# EAGLE library part LM4702 (library lmopamp2)
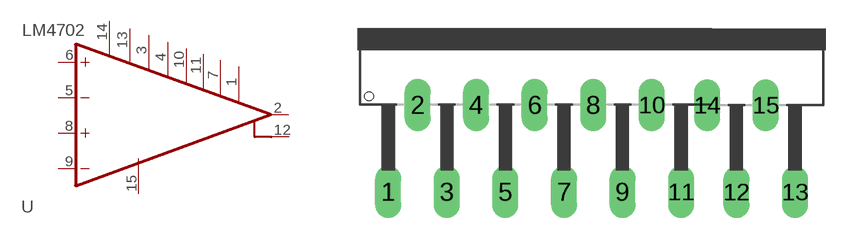
[diagram p1: symbol with the pads of LM4702; footprint LM4702]

Designator prefix -

## LM4702  [LM4702]
1  V+7  pwr
2  OUT  out
3  V+2  pwr
4  V+3  pwr
5  -INA  in
6  +INA  in
7  V+6  pwr
8  +INB  in
9  -INB  in
10  V+4  pwr
11  V+5  pwr
12  OUT1  out
13  V+  pwr
14  V+1  pwr
15  V-  pwr

## Footprint LM4702 (pad centres in mm)
drill 1.016 long: 1 0.381,1.905; 2 2.083,6.96; 3 3.785,1.905; 4 5.486,6.96; 5 7.188,1.905; 6 8.89,6.96; 7 10.592,1.905; 8 12.294,6.96; 9 13.995,1.905; 10 15.697,6.96; 11 17.399,1.905; 12 20.615,1.895; 13 24.019,1.895; 14 18.914,6.95; 15 22.317,6.95